# Altium footprint library WR-BNC.PcbLib: 5 footprints
Each footprint in its own frame and in the unit in brackets; x right, y up, seen from the top. Pads: shape width x height; smd on the part's side, far side on the other; paste and mask are expansions set on the pad; w line width, h text height; cw(c..) or ccw(c..) is an arc to the next point about the centre after c.
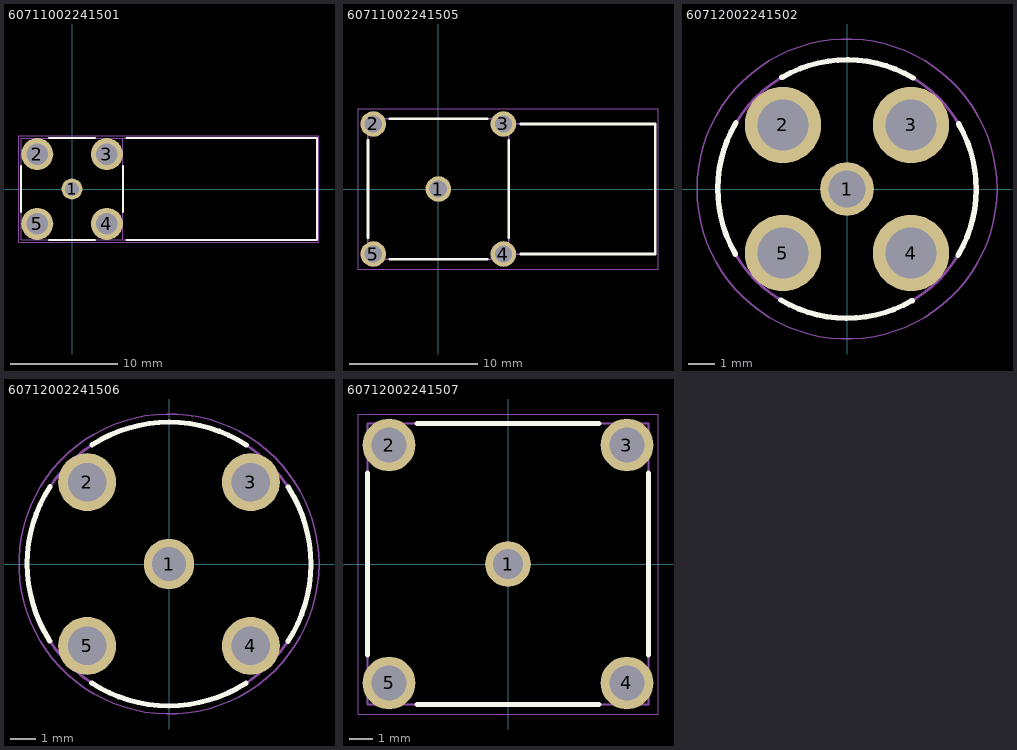
[diagram p0: the footprints below, top view; thin cyan lines are the x and y axes]

## 60711002241501 [mm] "BNC PCB THT Jack"
height 10.9
pads (5):
  round 1.95 hole 1.3: 1(0,0)
  round 3 hole 2: 2(-3.25,3.25) 3(3.25,3.25) 4(3.25,-3.25) 5(-3.25,-3.25)
Top Overlay:
  lines w0.2: -4.75,-2.15 -4.75,2.15 ; -2.15,-4.75 2.15,-4.75 ; -2.15,4.75 2.15,4.75 ; 4.75,-2.15 4.75,2.15 ; 5.1,-4.75 22.85,-4.75 22.85,4.75 5.1,4.75
Top Assembly:
  lines w0.1: 4.75,-4.75 4.75,4.75 ; -4.75,-4.75 22.85,-4.75 22.85,4.75 -4.75,4.75 -4.75,-4.75
Top Designator:
  text ".Designator" at -3.647,-0.357 h1
Top 3D Body:
  lines w0.1: 4.75,-4.75 4.75,4.75 ; -4.75,-4.75 22.85,-4.75 22.85,4.75 -4.75,4.75 -4.75,-4.75
Top Courtyard:
  lines w0.05: -4.95,-4.95 23.05,-4.95 23.05,4.95 -4.95,4.95 -4.95,-4.95
Top Component Center:
  lines w0.1: -0.5,0 0.5,0 ; 0,-0.5 0,0.5
3D body "STP_WR-BNC_60711002241501 (rev1).stp": height 12, standoff -3.4, extent -4.75,-4.846 22.85,4.846

## 60711002241505 [mm]
pads (5):
  round 2 hole 1.35: 1(0,0) 2(-5.08,5.08) 3(5.08,5.08) 4(5.08,-5.08) 5(-5.08,-5.08)
Top Overlay:
  lines w0.2: -5.5,-3.8 -5.5,3.8 ; -3.8,-5.5 3.8,-5.5 ; -3.8,5.5 3.8,5.5 ; 5.5,-3.8 5.5,3.8 ; 6.45,-5.08 16.96,-5.08 16.96,5.08 6.45,5.08
Top Assembly:
  lines w0.1: 5.5,-5.08 16.96,-5.08 16.96,5.08 5.5,5.08 ; -5.5,-5.5 -5.5,5.5 5.5,5.5 5.5,-5.5 -5.5,-5.5
Top Designator:
  text ".Designator" at -3.647,-0.357 h1
Top 3D Body:
  lines w0.1: 5.5,-5.08 16.96,-5.08 16.96,5.08 5.5,5.08 ; -5.5,-5.5 5.5,-5.5 5.5,5.5 -5.5,5.5 -5.5,-5.5
Top Courtyard:
  lines w0.05: -6.28,-6.28 -6.28,6.28 17.16,6.28 17.16,-6.28 -6.28,-6.28
Top Component Center:
  lines w0.1: -0.5,0 0.5,0 ; 0,-0.5 0,0.5
3D body "60711002241505.stp": height 18.7, standoff -3.4, extent -5.5,-5.5 16.96,5.5

## 60712002241502 [mm] "BNC PCB THT Jack"
height 16.74
pads (5):
  round 2 hole 1.37: 1(0,0)
  round 2.85 hole 1.91: 2(-2.39,2.39) 3(2.39,2.39) 4(2.39,-2.39) 5(-2.39,-2.39)
Top Overlay:
  lines w0.2: -4.168,-2.431 cw(c0,0) -4.142,2.475 ; -2.475,-4.142 ccw(c0,0) 2.431,-4.168 ; -2.431,4.168 cw(c0,0) 2.475,4.142 ; 4.142,-2.475 ccw(c0,0) 4.168,2.431
Top Assembly:
  circle w0.1: c0,0 r4.825
Top Designator:
  text ".Designator" at -3.647,-0.357 h1
Top 3D Body:
  circle w0.1: c0,0 r4.825
Top Courtyard:
  circle w0.05: c0,0 r5.6
Top Component Center:
  lines w0.1: -0.5,0 0.5,0 ; 0,-0.5 0,0.5
3D body "STP_WR-BNC_60712002241502 (rev1).stp": height 16.8, standoff -3.44, extent -7.301,-7.301 7.301,7.301

## 60712002241506 [mm]
pads (5):
  round 1.95 hole 1.3: 1(0,0)
  round 2.25 hole 1.5: 2(-3.175,3.175) 3(3.175,3.175) 4(3.175,-3.175) 5(-3.175,-3.175)
Top Overlay:
  lines w0.2: -4.622,-2.982 cw(c0,0) -4.607,3.004 ; -3.004,-4.607 ccw(c0,0) 2.982,-4.622 ; -2.982,4.622 cw(c0,0) 3.004,4.607 ; 4.607,-3.004 ccw(c0,0) 4.622,2.982
Top Assembly:
  circle w0.1: c0,0 r5.5
Top Designator:
  text ".Designator" at -3.647,-0.357 h1
Top 3D Body:
  circle w0.1: c0,0 r5.5
Top Courtyard:
  circle w0.05: c0,0 r5.815
Top Component Center:
  lines w0.1: -0.5,0 0.5,0 ; 0,-0.5 0,0.5
3D body "60712002241506.stp": height 13.76, standoff -3.44, extent -5.5,-5.5 5.5,5.488

## 60712002241507 [mm]
pads (5):
  round 1.95 hole 1.3: 1(0,0)
  round 2.25 hole 1.5: 2(-5.08,5.08) 3(5.08,5.08) 4(5.08,-5.08) 5(-5.08,-5.08)
Top Overlay:
  lines w0.2: -6,-3.9 -6,3.9 ; -3.9,-6 3.9,-6 ; -3.9,6 3.9,6 ; 6,-3.9 6,3.9
Top Assembly:
  lines w0.1: -6,-6 6,-6 6,6 -6,6 -6,-6
Top Designator:
  text ".Designator" at -3.647,-0.357 h1
Top 3D Body:
  lines w0.1: -6,-6 6,-6 6,6 -6,6 -6,-6
Top Courtyard:
  lines w0.05: -6.405,-6.405 -6.405,6.405 6.405,6.405 6.405,-6.405 -6.405,-6.405
Top Component Center:
  lines w0.1: -0.5,0 0.5,0 ; 0,-0.5 0,0.5
3D body "60712002241507.stp": height 13.05, standoff -3.45, extent -6,-6 6,6